# EAGLE library part LT1374 (library seb)
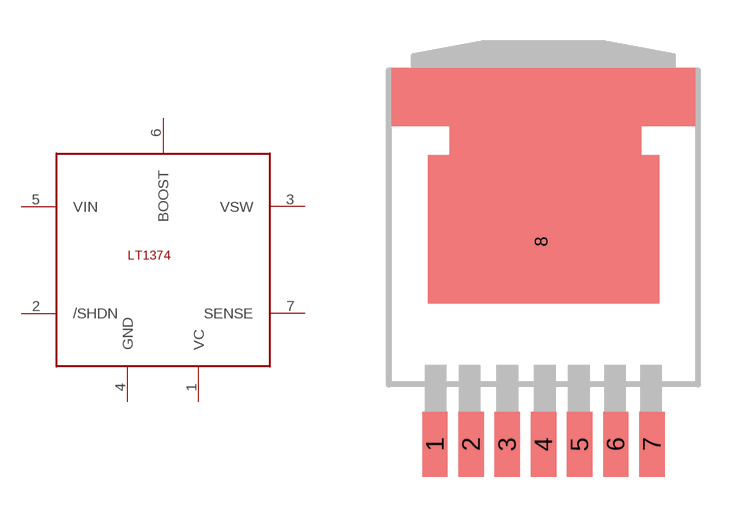
[diagram p4: symbol with the pads of DD7; footprint DD7]

Designator prefix IC

## LT1374  [DD7]
1  VC
2  /SHDN
3  VSW
4  GND
5  VIN
6  BOOST
7  SENSE

## Footprint DD7 (pad centres in mm)
smd 0.889 x 2.286: 1 -3.81,-7.112; 2 -2.54,-7.112; 3 -1.27,-7.112; 4 0,-7.112; 5 1.27,-7.112; 6 2.54,-7.112; 7 3.81,-7.112
smd 0.635 x 2.286: 8 -0.071,0